# Altium footprint library GRM033R60J104KE19D.PcbLib: 3 footprints
Each footprint in its own frame and in the unit in brackets; x right, y up, seen from the top. Pads: shape width x height; smd on the part's side, far side on the other; paste and mask are expansions set on the pad; w line width, h text height; cw(c..) or ccw(c..) is an arc to the next point about the centre after c.
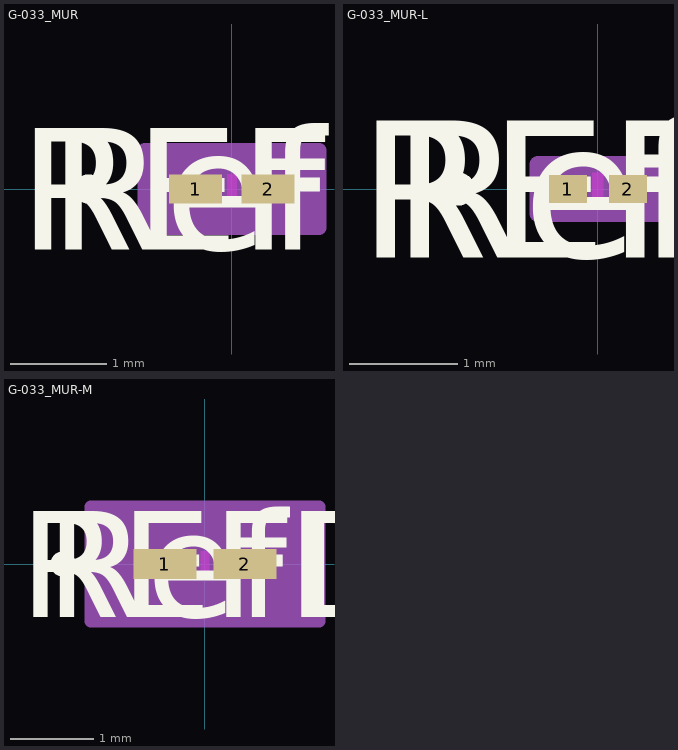
[diagram p0: the footprints below, top view; thin cyan lines are the x and y axes]

## G-033_MUR [mil]
pads (2):
  rect 21.78x12 smd paste+0 mask+0: 1(-14.89,0) 2(14.89,0)
Top Layer keep-out:
  region: -2,-4 -2,4 2,4 2,-4
Top Overlay:
  circle w6: c-58.78,0 r3
  text "RefDes" at -75,-25 h50
  text "REFDES" at -87.5,-25 h50
Keep-Out Layer:
  region: -2,-6 -2,6 2,6 2,-6
Mechanical 13:
  circle w0: c-9.89,0 r3
  lines w1: -12,-6 -12,6 ; -12,-6 -4,-6 -4,6 -12,6 ; -12,-6 12,-6 ; -12,-6 -12,6 ; -12,6 12,6 ; 12,-6 4,-6 4,6 12,6 ; 12,-6 12,6 ; 12,-6 12,6
  text "RefDes2" at -87.5,-25 h50
Mechanical 15:
  region: 35.78,-16 -35.78,-16 -35.78,16 35.78,16
  lines w6: -35.78,-16 -35.78,16 35.78,16 35.78,-16 -35.78,-16
3D body "G-033_MUR.step": height 12.99, standoff 0, extent -12.01,-5.98 12.01,5.98

## G-033_MUR-L [mil]
pads (2):
  rect 13.91x10.03 smd paste+0 mask+0: 1(-10.95,0) 2(10.95,0)
Top Layer keep-out:
  region: -2,-4 -2,4 2,4 2,-4
Top Overlay:
  circle w6: c-50.91,0 r3
  text "RefDes" at -75,-25 h50
  text "REFDES" at -87.5,-25 h50
Keep-Out Layer:
  region: -2,-6 -2,6 2,6 2,-6
Mechanical 13:
  circle w0: c-5.95,0 r3
  lines w1: -12,-6 -12,6 ; -12,-6 -4,-6 -4,6 -12,6 ; -12,-6 12,-6 ; -12,-6 -12,6 ; -12,6 12,6 ; 12,-6 4,-6 4,6 12,6 ; 12,-6 12,6 ; 12,-6 12,6
  text "RefDes2" at -87.5,-25 h50
Mechanical 15:
  region: 21.91,-9.02 -21.91,-9.02 -21.91,9.02 21.91,9.02
  lines w6: -21.91,-9.02 -21.91,9.02 21.91,9.02 21.91,-9.02 -21.91,-9.02
3D body "G-033_MUR.step": height 12.99, standoff 0, extent -12.01,-5.98 12.01,5.98

## G-033_MUR-M [mil]
pads (2):
  rect 29.65x13.97 smd paste+0 mask+0: 1(-18.83,0) 2(18.83,0)
Top Layer keep-out:
  region: -2,-4 -2,4 2,4 2,-4
Top Overlay:
  circle w6: c-66.65,0 r3
  text "RefDes" at -75,-25 h50
  text "REFDES" at -87.5,-25 h50
Keep-Out Layer:
  region: -2,-6 -2,6 2,6 2,-6
Mechanical 13:
  circle w0: c-13.83,0 r3
  lines w1: -12,-6 -12,6 ; -12,-6 -4,-6 -4,6 -12,6 ; -12,-6 12,-6 ; -12,-6 -12,6 ; -12,6 12,6 ; 12,-6 4,-6 4,6 12,6 ; 12,-6 12,6 ; 12,-6 12,6
  text "RefDes2" at -87.5,-25 h50
Mechanical 15:
  region: 53.65,-26.98 -53.65,-26.98 -53.65,26.98 53.65,26.98
  lines w6: -53.65,-26.98 -53.65,26.98 53.65,26.98 53.65,-26.98 -53.65,-26.98
3D body "G-033_MUR.step": height 12.99, standoff 0, extent -12.01,-5.98 12.01,5.98